# EAGLE library part DG301BDJ-E3 (library Vishay_By_element14_Batch_1)
CMOS Analog Switch
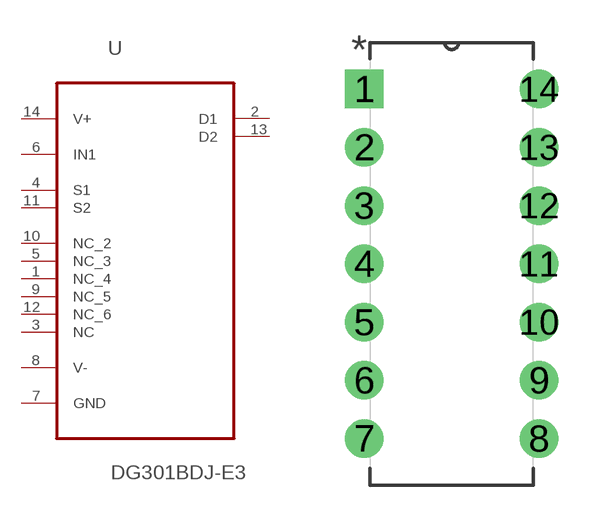
[diagram p12: symbol with the pads of DIP254P762X508-14; footprint DIP254P762X508-14]

Designator prefix U

## DG301BDJ-E3 (MPN: DG301BDJ-E3; OC_FARNELL: 1703235; OC_NEWARK: 49K9464; PACKAGE: DIP-14; SUPPLIER: VISHAY SILICONIX)  [DIP254P762X508-14]
1  NC_4  nc
2  D1  out
3  NC  nc
4  S1  in
5  NC_3  nc
6  IN1  in
7  GND  pas
8  V-  pwr
9  NC_5  nc
10  NC_2  nc
11  S2  in
12  NC_6  nc
13  D2  out
14  V+  pwr

## Footprint DIP254P762X508-14 (pad centres in mm)
drill 1.118 square: 1 -7.62,15.24
drill 1.118: 2 -7.62,12.7; 3 -7.62,10.16; 4 -7.62,7.62; 5 -7.62,5.08; 6 -7.62,2.54; 7 -7.62,0; 8 0,0; 9 0,2.54; 10 0,5.08; 11 0,7.62; 12 0,10.16; 13 0,12.7; 14 0,15.24